# EAGLE library part REG_LT3091 (library power_distro)
?36V, 1.5A Negative Linear Regulator with Programmable Current Limit Output Current: 1.5A Single Resistor Sets Output Voltage 50µA SET Pin Current: ±1% Initial Accuracy Programmable Current Limit Positive or Negative Output Current Monitor Parallelable for Higher Current and Heat Spreading Low Dropout Voltage: 300mV Low Output Noise: 18µVRMS (10Hz to 100kHz) Configurable as a 3-Terminal Floating Regulator Wide Input Voltage Range: ?1.5V to ?36V Rail-to-Rail Output Voltage Range: 0V to ?32V Positive/Negative Shutdown Logic or UVLO Programmable Cable Drop Compensation Load Regulation: 1.2mV (1mA to 1.5A) Stable with 10µF Minimum Output Capacitor Stable with Ceramic or Tantalum Capacitors Thermally Enhanced 14-Lead 4mm × 3mm DFN, 16-Lead TSSOP, 7-Lead TO-220 and DD Packages
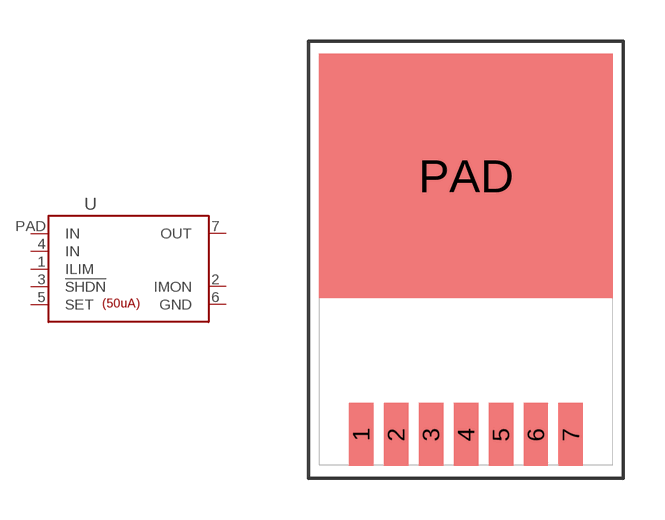
[diagram p1: symbol with the pads of DD-7_LINEARTECH; footprint DD-7_LINEARTECH]

Designator prefix U

## REG_LT3091 (MFG: LINEAR TECH; MPN: LT3091IR; PRICE: 8.12; SOLIDWORKS_CONFIG: Default; SOLIDWORKS_FILE: D2PAK_7pin.SLDASM; VENDOR: DIGIKEY; VPN: LT3091IR#PBF-ND)  [DD-7_LINEARTECH]
1  ILIM  pas
2  IMON  pas
3  !SHDN  pas
4  IN  pas
5  SET  pas
6  GND  pas
7  OUT  pas
PAD  IN  pas

## Footprint DD-7_LINEARTECH (pad centres in mm)
7-LEAD PLASTIC DDPAK TJMAX = 125°C, ?JA = 15°C/W, ?JC = 3°C/W
smd 0.889 x 2.286: 1 -3.81,-6.35; 2 -2.54,-6.35; 3 -1.27,-6.35; 4 0,-6.35; 5 1.27,-6.35; 6 2.54,-6.35; 7 3.81,-6.35
smd 10.668 x 8.89: PAD 0,3.048